# Altium footprint library 5v et 12v connector.PcbLib: 1 footprints
Each footprint in its own frame and in the unit in brackets; x right, y up, seen from the top. Pads: shape width x height; smd on the part's side, far side on the other; paste and mask are expansions set on the pad; w line width, h text height; cw(c..) or ccw(c..) is an arc to the next point about the centre after c.
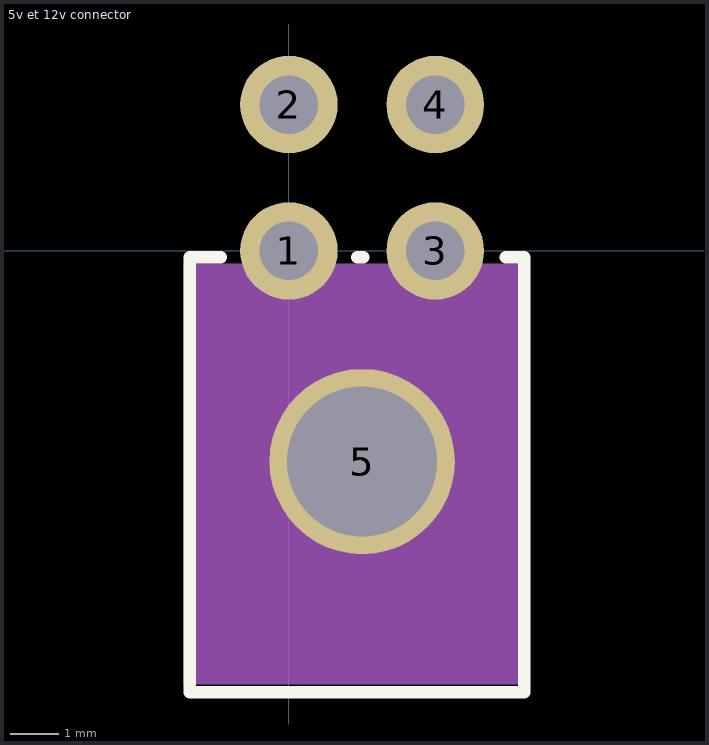
[diagram p0: the footprint, top view; thin cyan lines are the x and y axes]

## 5v et 12v connector [mm]
pads (5):
  round 2 hole 1.2: 1(0,0) 2(0,3) 3(3,0) 4(3,3)
  round 3.8 hole 3.08: 5(1.5,-4.32)
Top Overlay:
  lines w0.254: -2.034,-0.127 -2.034,-9.047 4.826,-9.047 4.826,-0.127 4.445,-0.127 ; -2.032,-0.127 -1.397,-0.127 ; 1.397,-0.127 1.524,-0.127
Mechanical 1:
  rectangle: -2.159,-8.89 4.699,-0.254